# Altium footprint library PcbLib2.PcbLib: 4 footprints
Each footprint in its own frame and in the unit in brackets; x right, y up, seen from the top. Pads: shape width x height; smd on the part's side, far side on the other; paste and mask are expansions set on the pad; w line width, h text height; cw(c..) or ccw(c..) is an arc to the next point about the centre after c.
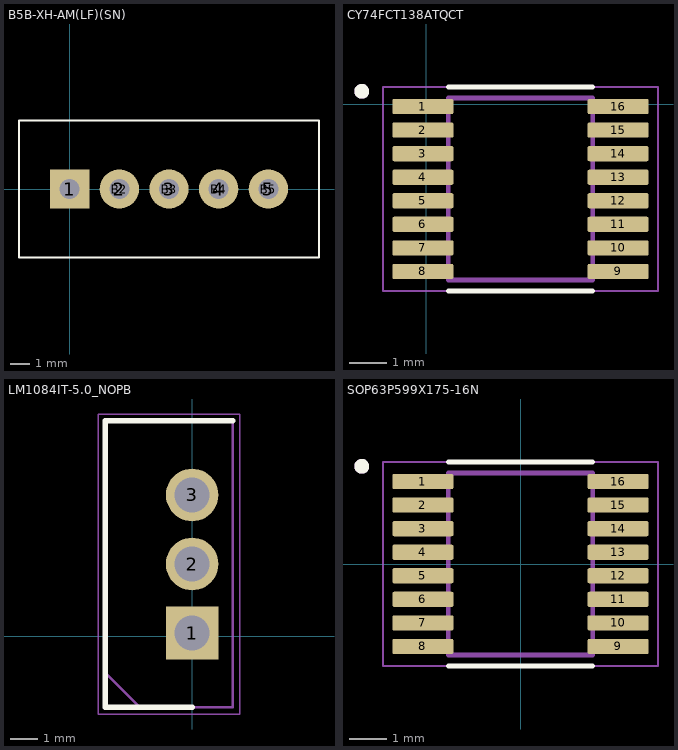
[diagram p0: the footprints below, top view; thin cyan lines are the x and y axes]

## B5B-XH-AM(LF)(SN) [mm]
pads (9):
  rect 1.98x1.98 hole 1: 1(0,0)
  round 1.98 hole 1: 2(2.5,0) 3(5,0) 4(7.5,0) 5(10,0)
  round 1 smd far side: B2(2.5,0) B3(5,0) B4(7.5,0) B5(10,0)
Top Overlay:
  lines w0.1: -2.55,-3.45 -2.55,3.45 12.55,3.45 12.55,-3.45 -2.55,-3.45

## CY74FCT138ATQCT [mm]
pads (16):
  rrect25% 1.65x0.41 smd: 1(-0.09,-0.064) 2(-0.09,-0.699) 3(-0.09,-1.333) 4(-0.09,-1.968) 5(-0.09,-2.603) 6(-0.09,-3.238) 7(-0.09,-3.873) 8(-0.09,-4.508) 9(5.17,-4.508) 10(5.17,-3.873) 11(5.17,-3.238) 12(5.17,-2.603) 13(5.17,-1.968) 14(5.17,-1.333) 15(5.17,-0.699) 16(5.17,-0.064)
Top Overlay:
  circle w0.2: c-1.74,0.346 r0.1
  lines w0.127: 0.593,-5.034 4.487,-5.034 ; 0.593,0.462 4.487,0.462
Mechanical 13:
  circle w0.2: c-1.74,0.346 r0.1
  lines w0.127: 0.593,-4.738 0.593,0.166 4.487,0.166 4.487,-4.738 0.593,-4.738
Mechanical 15:
  lines w0.05: -1.165,-5.036 -1.165,0.464 6.245,0.464 6.245,-5.036 -1.165,-5.036

## LM1084IT-5.0_NOPB [mm]
pads (3):
  rect 1.935x1.935 hole 1.29: 1(0,0.127)
  round 1.935 hole 1.29: 2(0,2.667) 3(0,5.207)
Top Overlay:
  lines w0.2: 0,-2.603 -3.2,-2.603 -3.2,7.937 1.5,7.937
Mechanical 13:
  lines w0.1: -3.2,-1.333 -1.93,-2.603 ; -3.2,-2.603 1.5,-2.603 1.5,7.937 -3.2,7.937 -3.2,-2.603
Mechanical 15:
  lines w0.05: -3.45,-2.853 1.75,-2.853 1.75,8.187 -3.45,8.187 -3.45,-2.853
3D body "LM1084IT-5.0_NOPB.stp": height 15.74, standoff -12.91, extent -2.794,-2.413 1.778,7.747

## SOP63P599X175-16N [mm]
pads (16):
  rrect25% 1.65x0.41 smd: 1(-2.63,2.222) 2(-2.63,1.587) 3(-2.63,0.953) 4(-2.63,0.318) 5(-2.63,-0.318) 6(-2.63,-0.953) 7(-2.63,-1.587) 8(-2.63,-2.222) 9(2.63,-2.222) 10(2.63,-1.587) 11(2.63,-0.953) 12(2.63,-0.318) 13(2.63,0.318) 14(2.63,0.953) 15(2.63,1.587) 16(2.63,2.222)
Top Overlay:
  circle w0.2: c-4.28,2.632 r0.1
  lines w0.127: -1.947,-2.748 1.947,-2.748 ; -1.947,2.748 1.947,2.748
Mechanical 13:
  circle w0.2: c-4.28,2.632 r0.1
  lines w0.127: -1.947,-2.452 -1.947,2.452 1.947,2.452 1.947,-2.452 -1.947,-2.452
Mechanical 15:
  lines w0.05: -3.705,-2.75 -3.705,2.75 3.705,2.75 3.705,-2.75 -3.705,-2.75